# EAGLE library part RASPBERRY_PI (library RaspberryPi)
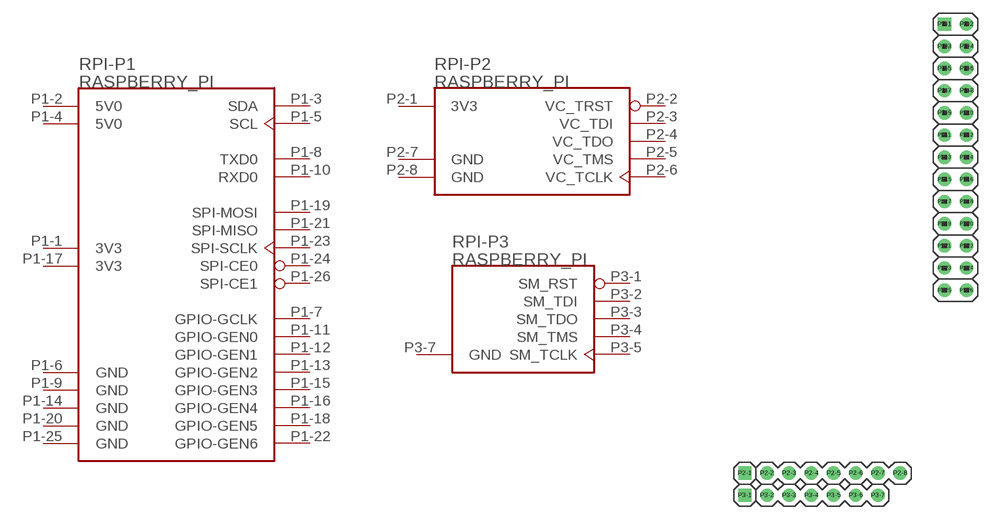
[diagram p0: symbol with the pads of RPI; footprint RPI]

Designator prefix RPI; gates -P1=RPI-P1 -P2=RPI-P2 -P3=RPI-P3

## RASPBERRY_PI  [RPI]
P1-1  -P1:3V3  pwr
P1-2  -P1:5V0  pwr
P1-3  -P1:SDA  pwr
P1-4  -P1:5V0  pwr
P1-5  -P1:SCL  out
P1-6  -P1:GND  pwr
P1-7  -P1:GPIO-GCLK
P1-8  -P1:TXD0  out
P1-9  -P1:GND  pwr
P1-10  -P1:RXD0  in
P1-11  -P1:GPIO-GEN0
P1-12  -P1:GPIO-GEN1  out
P1-13  -P1:GPIO-GEN2
P1-14  -P1:GND  pwr
P1-15  -P1:GPIO-GEN3
P1-16  -P1:GPIO-GEN4
P1-17  -P1:3V3  pwr
P1-18  -P1:GPIO-GEN5
P1-19  -P1:SPI-MOSI  in
P1-20  -P1:GND  pwr
P1-21  -P1:SPI-MISO  out
P1-22  -P1:GPIO-GEN6
P1-23  -P1:SPI-SCLK  out
P1-24  -P1:SPI-CE0  out
P1-25  -P1:GND  pwr
P1-26  -P1:SPI-CE1  out
P2-1  -P2:3V3  pwr
P2-2  -P2:VC_TRST
P2-3  -P2:VC_TDI
P2-4  -P2:VC_TDO
P2-5  -P2:VC_TMS
P2-6  -P2:VC_TCLK
P2-7  -P2:GND  pwr
P2-8  -P2:GND  pwr
P3-1  -P3:SM_RST
P3-2  -P3:SM_TDI
P3-3  -P3:SM_TDO
P3-4  -P3:SM_TMS
P3-5  -P3:SM_TCLK
P3-7  -P3:GND  pwr

## Footprint RPI (pad centres in mm)
drill 1.016 square: P1-1 -5.144,-2.095; P2-1 -28.003,-53.531; P3-1 -28.003,-56.071
drill 1.016 round: P1-2 -2.603,-2.095; P1-3 -5.144,-4.636; P1-4 -2.603,-4.636; P1-5 -5.144,-7.176; P1-6 -2.603,-7.176; P1-7 -5.144,-9.716; P1-8 -2.603,-9.716; P1-9 -5.144,-12.255; P1-10 -2.603,-12.255; P1-11 -5.144,-14.796; P1-12 -2.603,-14.796; P1-13 -5.144,-17.335; P1-14 -2.603,-17.335; P1-15 -5.144,-19.875; P1-16 -2.603,-19.875; P1-17 -5.144,-22.416; P1-18 -2.603,-22.416; P1-19 -5.144,-24.956; P1-20 -2.603,-24.956; P1-21 -5.144,-27.495; P1-22 -2.603,-27.495; P1-23 -5.144,-30.035; P1-24 -2.603,-30.035; P1-25 -5.144,-32.575; P1-26 -2.603,-32.575; P2-2 -25.463,-53.531; P2-3 -22.924,-53.531; P2-4 -20.384,-53.531; P2-5 -17.843,-53.531; P2-6 -15.303,-53.531; P2-7 -12.764,-53.531; P2-8 -10.223,-53.531; P3-2 -25.463,-56.071; P3-3 -22.924,-56.071; P3-4 -20.384,-56.071; P3-5 -17.843,-56.071; P3-6 -15.303,-56.071; P3-7 -12.764,-56.071